# Altium schematic symbol library MCU.SchLib: 1 symbol
Pins are listed as number, name and electrical type; pins without a type are passive.

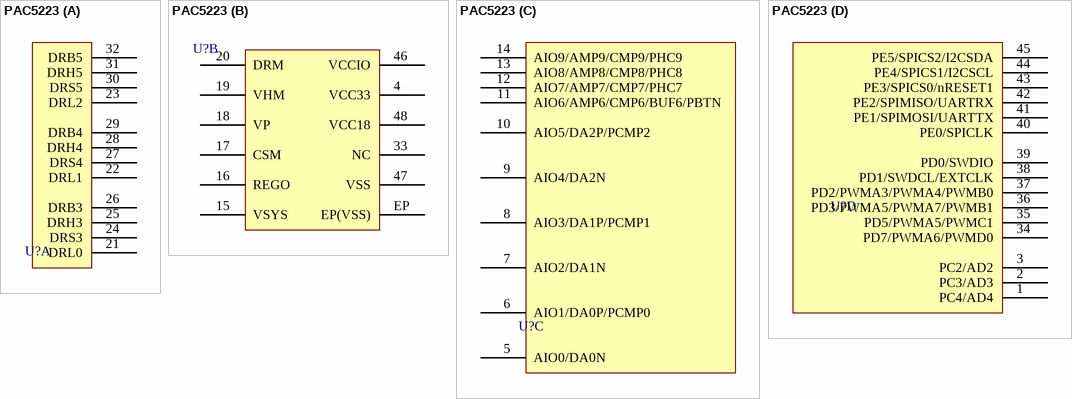
[diagram p0: symbol PAC5223]

## PAC5223
designator U?
=Description
part A pins: 21 DRL0, 22 DRL1, 23 DRL2, 24 DRS3, 25 DRH3, 26 DRB3, 27 DRS4, 28 DRH4, 29 DRB4, 30 DRS5, 31 DRH5, 32 DRB5
part B pins: 4 VCC33, 15 VSYS, 16 REGO, 17 CSM, 18 VP, 19 VHM, 20 DRM, 33 NC, 46 VCCIO, 47 VSS, 48 VCC18, EP EP(VSS)
part C pins: 5 AIO0/DA0N, 6 AIO1/DA0P/PCMP0, 7 AIO2/DA1N, 8 AIO3/DA1P/PCMP1 , 9 AIO4/DA2N , 10 AIO5/DA2P/PCMP2, 11 AIO6/AMP6/CMP6/BUF6/PBTN, 12 AIO7/AMP7/CMP7/PHC7, 13 AIO8/AMP8/CMP8/PHC8, 14 AIO9/AMP9/CMP9/PHC9
part D pins: 1 PC4/AD4, 2 PC3/AD3, 3 PC2/AD2, 34 PD7/PWMA6/PWMD0, 35 PD5/PWMA5/PWMC1, 36 PD3/PWMA5/PWMA7/PWMB1, 37 PD2/PWMA3/PWMA4/PWMB0, 38 PD1/SWDCL/EXTCLK, 39 PD0/SWDIO, 40 PE0/SPICLK, 41 PE1/SPIMOSI/UARTTX, 42 PE2/SPIMISO/UARTRX, 43 PE3/SPICS0/nRESET1, 44 PE4/SPICS1/I2CSCL, 45 PE5/SPICS2/I2CSDA